# Altium footprint library basic_pcb.PcbLib: 133 footprints (part 9 of 9)
Each footprint in its own frame and in the unit in brackets; x right, y up, seen from the top. Pads: shape width x height; smd on the part's side, far side on the other; paste and mask are expansions set on the pad; w line width, h text height; cw(c..) or ccw(c..) is an arc to the next point about the centre after c.
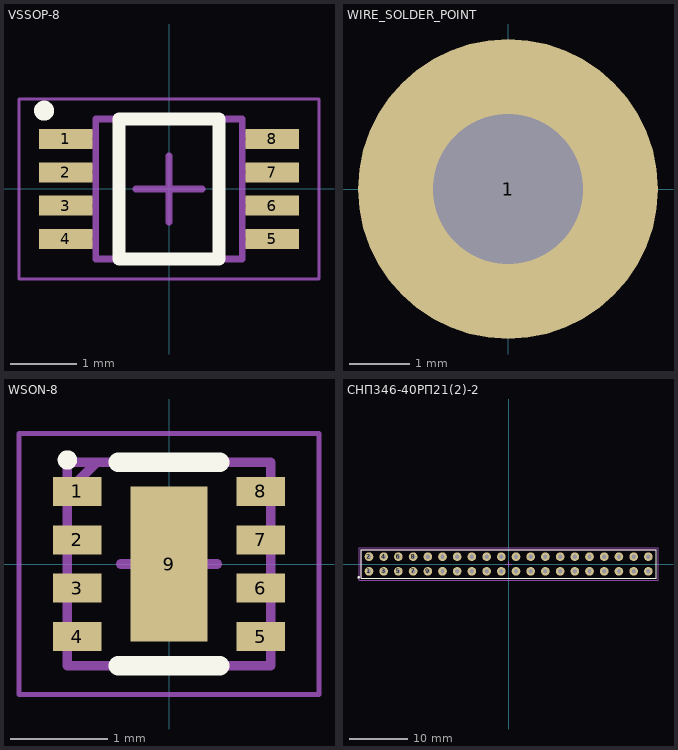
[diagram p8: the footprints below, top view; thin cyan lines are the x and y axes]

## VSSOP-8 [mm]
height 0.9
pads (8):
  rect 0.8x0.3 smd: 1(-1.55,0.75) 2(-1.55,0.25) 3(-1.55,-0.25) 4(-1.55,-0.75) 5(1.55,-0.75) 6(1.55,-0.25) 7(1.55,0.25) 8(1.55,0.75)
Top Overlay:
  circle w0.2: c-1.875,1.175 r0.05
  lines w0.2: -0.75,-1.05 -0.75,1.05 0.75,1.05 0.75,-1.05 -0.75,-1.05
Top Value:
  text ".Comment" at -2.189,-3.652 h1.52
Top Designator:
  text ".Designator" at -2.617,-2.428 h1.52
Top Component Outline:
  lines w0.1: -1.1,-0.825 -1.55,-0.825 -1.55,-0.675 -1.1,-0.675 ; -1.1,-0.325 -1.55,-0.325 -1.55,-0.175 -1.1,-0.175 ; -1.1,0.175 -1.55,0.175 -1.55,0.325 -1.1,0.325 ; -1.1,0.675 -1.55,0.675 -1.55,0.825 -1.1,0.825 ; -0.75,-1.05 -0.75,1.05 ; 1.1,-0.825 1.55,-0.825 1.55,-0.675 1.1,-0.675 ; 1.1,-0.325 1.55,-0.325 1.55,-0.175 1.1,-0.175 ; 1.1,0.175 1.55,0.175 1.55,0.325 1.1,0.325 ; 1.1,0.675 1.55,0.675 1.55,0.825 1.1,0.825 ; -1.1,-1.05 1.1,-1.05 1.1,1.05 -1.1,1.05 -1.1,-1.05
Top Courtyard:
  lines w0.05: -2.25,-1.35 -2.25,1.35 2.25,1.35 2.25,-1.35 -2.25,-1.35
  lines w0.1: -0.5,0 0.5,0 ; 0,-0.5 0,0.5
3D body "VSSOP-8(DCU).step": height 0.9, standoff 0, extent -1.6,-1.05 1.6,1.05

## WIRE_SOLDER_POINT [mm] "Îòâåðñòèå äëÿ ïàéêè ïðîâîäà"
pads (1):
  round 5 hole 2.5: 1(0,0)

## WSON-8 [mm] "PSON, 8-Leads, Body 4x4mm, Pitch 0.8mm, NSC Recommended"
height 0.8
pads (9):
  rect 0.5x0.3 smd mask+0.051: 1(-0.95,0.75) 2(-0.95,0.25) 3(-0.95,-0.25) 4(-0.95,-0.75) 5(0.95,-0.75) 6(0.95,-0.25) 7(0.95,0.25) 8(0.95,0.75)
  rect 0.8x1.6 smd mask+0.051: 9(0,0)
Top Overlay:
  circle w0.1: c-1.05,1.075 r0.05
  lines w0.2: -0.525,-1.05 0.525,-1.05 ; -0.525,1.05 0.525,1.05
Top Value:
  text ".Comment" at -1.508,-3.652 h1.52
Top Designator:
  text ".Designator" at -1.518,-2.429 h1.52
Top Component Outline:
  lines w0.1: -1.05,0.75 -0.75,1.05 ; -1.05,-1.05 -1.05,1.05 1.05,1.05 1.05,-1.05 -1.05,-1.05
Top Courtyard:
  lines w0.05: -1.55,-1.35 -1.55,1.35 1.55,1.35 1.55,-1.35 -1.55,-1.35
  lines w0.1: -0.5,0 0.5,0 ; 0,-0.5 0,0.5
3D body: height 0.8, standoff 0, extent -1.05,-1.05 1.05,1.05

## СНП346-40ВП51(2)-2 [mm]

## СНП346-40РП21(2)-2 [mm]
pads (40):
  round 1.5 hole 0.75: 1(-24.13,-1.27) 2(-24.13,1.27) 3(-21.59,-1.27) 4(-21.59,1.27) 5(-19.05,-1.27) 6(-19.05,1.27) 7(-16.51,-1.27) 8(-16.51,1.27) 9(-13.97,-1.27) 10(-13.97,1.27) 11(-11.43,-1.27) 12(-11.43,1.27) 13(-8.89,-1.27) 14(-8.89,1.27) 15(-6.35,-1.27) 16(-6.35,1.27) 17(-3.81,-1.27) 18(-3.81,1.27) 19(-1.27,-1.27) 20(-1.27,1.27) 21(1.27,-1.27) 22(1.27,1.27) 23(3.81,-1.27) 24(3.81,1.27) 25(6.35,-1.27) 26(6.35,1.27) 27(8.89,-1.27) 28(8.89,1.27) 29(11.43,-1.27) 30(11.43,1.27) 31(13.97,-1.27) 32(13.97,1.27) 33(16.51,-1.27) 34(16.51,1.27) 35(19.05,-1.27) 36(19.05,1.27) 37(21.59,-1.27) 38(21.59,1.27) 39(24.13,-1.27) 40(24.13,1.27)
Top Overlay:
  circle w0.25: c-25.9,-2.3 r0.125
  lines w0.2: -25.5,-2.5 -25.5,2.5 25.5,2.5 25.5,-2.5 -25.5,-2.5
Top Value:
  text ".Comment" at -25.508,-5.152 h1.52
Top Designator:
  text ".Designator" at -25.518,-3.929 h1.52
Top Component Outline:
  lines w0.1: 25.5,-2.5 -25.5,-2.5 -25.5,2.5 25.5,2.5
Top Courtyard:
  lines w0.05: -0.5,0 0.5,0 ; 0,-0.5 0,0.5 ; -25.8,-2.85 25.8,-2.85 25.8,2.85 -25.8,2.85 -25.8,-2.85
3D body "User Library-PBD2_54-40.step": height 8.5, standoff -2.6, extent -25.4,-2.53 25.4,2.55